# Altium schematic symbol library TMC2209-LA.SchLib: 1 symbol
Pins are listed as number, name and electrical type; pins without a type are passive.

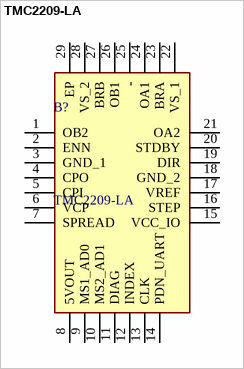
[diagram p0: symbol TMC2209-LA]

## TMC2209-LA
designator B?
Silent stepper motor driver 5 to 36V, up to 1.4A with S/D and UART Interface, 256 Steps, SpreadCycle and Stealthchop2; Manufacturer_Name: Analog Devices; Geometry.Height: 0.9mm; Manufacturer_Part_Number: TMC2209-LA; Mouser Part Number: 700-TMC2209-LA; Mouser Price/Stock: https://www.mouser.co.uk/ProductDetail/ADI-Trinamic/TMC2209-LA?qs=TiOZkKH1s2QqRRreEQH08w%3D%3D; Arrow Part Number: TMC2209-LA; Arrow Price/Stock: null?region=asia; Datasheet Link: https://www.analog.com/media/en/technical-documentation/data-sheets/TMC2209_datasheet_rev1.09.pdf
footprint QFN50P500X500X90-29N
pins: 1 OB2, 2 ENN, 3 GND_1, 4 CPO, 5 CPI, 6 VCP, 7 SPREAD, 8 5VOUT, 9 MS1_AD0, 10 MS2_AD1, 11 DIAG, 12 INDEX, 13 CLK, 14 PDN_UART, 15 VCC_IO, 16 STEP, 17 VREF, 18 GND_2, 19 DIR, 20 STDBY, 21 OA2, 22 VS_1, 23 BRA, 24 OA1, 25 -, 26 OB1, 27 BRB, 28 VS_2, 29 EP